# EAGLE library part MCP4131-502E (library custom)
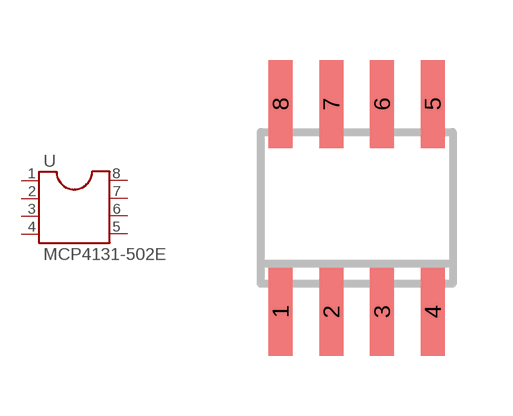
[diagram p6: symbol with the pads of SO8; footprint SO8]

Designator prefix -

## MCP4131-502E  [SO8]
1  SS  pas
2  SCK  pas
3  MOSI  pas
4  GND  pas
5  B  pas
6  W  pas
7  A  pas
8  +5V  pas

## Footprint SO8 (pad centres in mm)
8-Lead Small Outline IC (SO-8) Source: http://www.analog.com/UploadedFiles/Data_Sheets/703465986AD8611_2_0.pdf
smd 0.6 x 2.2: 1 -1.905,-2.6; 2 -0.635,-2.6; 3 0.635,-2.6; 4 1.905,-2.6; 5 1.905,2.6; 6 0.635,2.6; 7 -0.635,2.6; 8 -1.905,2.6